# EAGLE library part DM3AT-SF-PEJM5 (library HermitRetro)
Hirose DM3AT-SF-PEJM5 MicroSD Push-Push Adapter
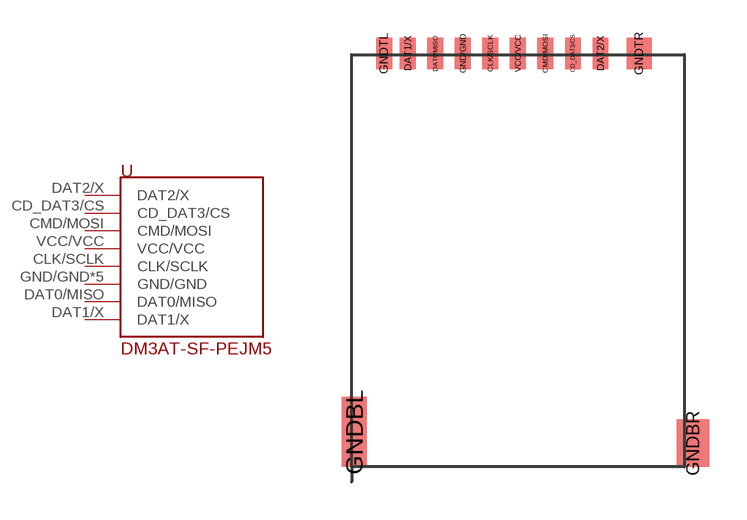
[diagram p8: symbol with the pads of DM3AT-SF-PEJM5; footprint DM3AT-SF-PEJM5]

Designator prefix -

## DM3AT-SF-PEJM5 (UNIT_PRICE: 1.66; VENDOR_ID: RS Components; VENDOR_SKU: 828-1884)  [DM3AT-SF-PEJM5]
CD_DAT3/CS  CD_DAT3/CS
CLK/SCLK  CLK/SCLK
CMD/MOSI  CMD/MOSI
DAT0/MISO  DAT0/MISO
DAT1/X  DAT1/X
DAT2/X  DAT2/X
GND/GND  GND/GND
GNDBL  GND/GND
GNDBR  GND/GND
GNDTL  GND/GND
GNDTR  GND/GND
VCC/VCC  VCC/VCC

## Footprint DM3AT-SF-PEJM5 (pad centres in mm)
Hirose DM3AT-SF-PEJM5 MicroSD Push-Push Adapter
smd 0.635 x 1.27: CD_DAT3/CS 8.85,16.55; CLK/SCLK 5.55,16.55; CMD/MOSI 7.75,16.55; DAT0/MISO 3.35,16.55; DAT1/X 2.25,16.55; DAT2/X 9.95,16.55; GND/GND 4.45,16.55; GNDTL 1.3,16.55; VCC/VCC 6.65,16.55
smd 1 x 2.8: GNDBL 0.1,1.4
smd 1.3 x 1.9: GNDBR 13.65,0.95
smd 1 x 1.27: GNDTR 11.5,16.55